# Altium schematic symbol library Resistors.SchLib: 54 symbols (part 2 of 2)
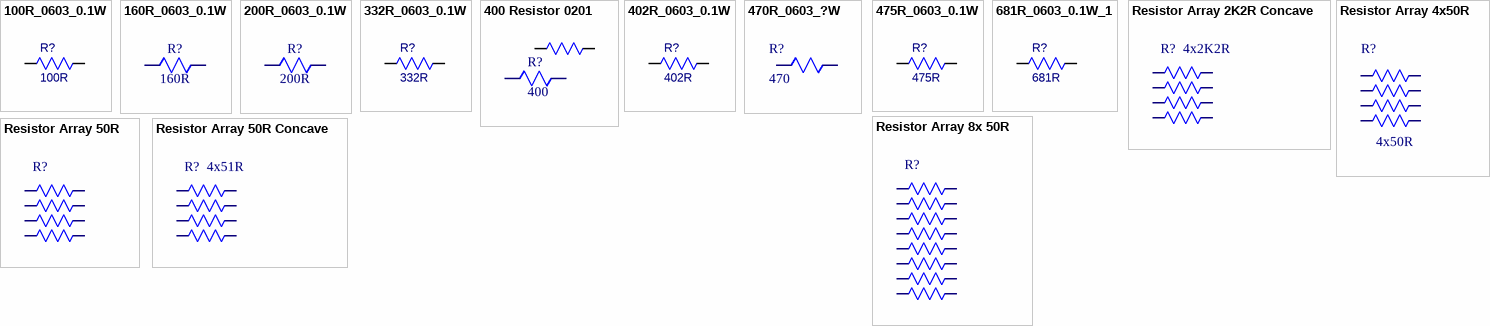
[diagram p2: symbols 100R_0603_0.1W to Resistor Array 50R Concave]

## 332R_0603_0.1W
designator R?, comment 332R
Res,SMD,1/10W,332R,0603,1%; Manufacturer: Yageo; Manufacturer Part Number: RC0603FR-0747R5L; Resistance (Ohms): 332Ohm; Power (Watts): 0.1W, 1/10W; Supplier 1: Digi-Key; RoHS: RoHS Compliant; Category: Resistors; Pricing 1: 1=0.15, 50=0.019, 100=0.0144, 250=0.01076, 500=0.00794, 1000=0.00529, 2500=0.00446 (CAD); Packaging: Cut Tape (CT); Tolerance: 1%; Composition: Thick Film; Features: Automotive AEC-Q200; Temperature Coefficient: -; Operating Temperature: -55°C ~ 155°C; Package / Case: 0603 (1608 Metric); Supplier Device Package: 0603; Size / Dimension: 0.063" L x 0.031" W (1.60mm x 0.80mm); Height: 0.022" (0.55mm); Number of Terminations: 2; Supplier 2: Arrow; Pricing 2: 25000000=0.0021, 50000000=0.0017, 125000000=0.0015, 250000000=0.0014, 625000000=0.0013, 1=0.0023, 25=0.0022 (USD); Package Quantity: 1000; Supplier Part Number 1: 311-332HRCT-ND
footprint R1608[0603]
pins: 1, 2

## 400 Resistor 0201
designator R?, comment 400
Manufacturer: Panasonic Electronic Components; Manufacturer Part Number: ERJ-1GEF4020C; Resistance (Ohms): 402; Tolerance: ±1%; Power (Watts): 0.05W, 1/20W; Temperature Coefficient: ±200ppm/°C; Supplier 1: Digi-Key; Supplier Part Number 1: P402ABCT-ND; RoHS: RoHS Compliant; Category: Resistors; Stock: 3806; Pricing: 1=0.15, 50=0.0424, 100=0.0313, 250=0.02384, 500=0.01908, 1000=0.01403, 5000=0.01006 (CAD); Packaging: Cut Tape (CT); Part Status: Active; Composition: Thick Film; Features: -; Operating Temperature: -55°C ~ 125°C; Package / Case: 0201 (0603 Metric); Supplier Device Package: 0201; Size / Dimension: 0.024" L x 0.012" W (0.60mm x 0.30mm); Height: 0.010" (0.26mm); Number of Terminations: 2; Failure Rate: -; ComponentLink1URL: http://media.digikey.com/pdf/Data%20Sheets/Panasonic%20Resistors%20Thermistors%20PDFs/ERJ_G,R,E_Rev08.pdf; ComponentLink1Description: http://media.digikey.com/pdf/Data%20Sheets/Panasonic%20Resistors%20Thermistors%20PDFs/ERJ_G,R,E_Rev08.pdf
footprint 0201 RESISTOR
pins: 1, 1, 2, 2

## 402R_0603_0.1W
designator R?, comment 402R
Res,SMD,1/10W,402R,0603,1%; Manufacturer: Panasonic Electronic Components; Manufacturer Part Number: ERJ-3EKF4020V; Power (Watts): 0.1W, 1/10W; Temperature Coefficient: ±100ppm/°C; ID: 1633688; Resistance (Ohms): 402; Supplier 1: Digi-Key; Supplier Part Number 1: P402HCT-ND; RoHS: RoHS Compliant; Category: Resistors; Stock: 121089; Pricing: 1=0.15, 50=0.0172, 100=0.0126, 250=0.00968, 500=0.00772, 1000=0.00569 (CAD); Packaging: Cut Tape (CT); Tolerance: ±1%; Composition: Thick Film; Features: Automotive AEC-Q200; Operating Temperature: -55°C ~ 155°C; Package / Case: 0603 (1608 Metric); Supplier Device Package: 0603; Size / Dimension: 0.063" L x 0.031" W (1.60mm x 0.80mm); Height: 0.022" (0.55mm); Number of Terminations: 2; ComponentLink1URL: http://industrial.panasonic.com/www-cgi/jvcr13pz.cgi?E+PZ+3+AOA0002+ERJ3EKF4020V+7+WW; ComponentLink1Description: http://industrial.panasonic.com/www-cgi/jvcr13pz.cgi?E+PZ+3+AOA0002+ERJ3EKF4020V+7+WW; Supplier 2: Arrow; Supplier Part Number 2: eZfyx1EtlYvVlf_vmAjt5IeB0vBKj3gJmzrKA6NBYFw; Package Quantity: 5000; ComponentLink2URL: https://www.arrow.com/en/products/erj-3ekf4020v/panasonic/; ComponentLink2Description: https://www.arrow.com/en/products/erj-3ekf4020v/panasonic/
footprint 0603_Resistor (Generic 0603 Surface Mount Resistor)
pins: 1, 2

## 470R_0603_?W
designator R?, comment 470
Res,SMD,1/10W,470R,0603
footprint R1608[0603]
pins: 1, 2

## 475R_0603_0.1W
designator R?, comment 475R
Res,SMD,1/10W,475R,0603,1%; Manufacturer: Yageo; Manufacturer Part Number: RC0603FR-07475RL; Resistance (Ohms): 475Ohm; Tolerance: Jumper; Power (Watts): 0.1W, 1/10W; ID: 1660684; Supplier 1: Digi-Key; RoHS: RoHS Compliant; Category: Resistors; Pricing 1: 1=0.15, 50=0.019, 100=0.0144, 250=0.01076, 500=0.00794, 1000=0.00529, 2500=0.00446 (CAD); Packaging: Cut Tape (CT); Composition: Thick Film; Features: Automotive AEC-Q200; Temperature Coefficient: -; Operating Temperature: -55°C ~ 155°C; Package / Case: 0603 (1608 Metric); Supplier Device Package: 0603; Size / Dimension: 0.063" L x 0.031" W (1.60mm x 0.80mm); Height: 0.022" (0.55mm); Number of Terminations: 2; Supplier 2: Arrow; Pricing 2: 25000000=0.0021, 50000000=0.0017, 125000000=0.0015, 250000000=0.0014, 625000000=0.0013, 1=0.0023, 25=0.0022 (USD); Package Quantity: 5000; Supplier Part Number 1: 311-475HRCT-ND
footprint R1608[0603]
pins: 1, 2

## 681R_0603_0.1W_1
designator R?, comment 681R
Res,SMD,1/10W,681R,0603,1%; Manufacturer: Panasonic Electronic Components; Manufacturer Part Number: ERJ-3GEY0R00V; Resistance (Ohms): 0.0; Tolerance: Jumper; Power (Watts): 0.1W, 1/10W; ID: 1660684; Supplier 1: Digi-Key; RoHS: RoHS Compliant; Category: Resistors; Pricing 1: 1=0.15, 50=0.019, 100=0.0144, 250=0.01076, 500=0.00794, 1000=0.00529, 2500=0.00446 (CAD); Packaging: Cut Tape (CT); Composition: Thick Film; Features: Automotive AEC-Q200; Temperature Coefficient: -; Operating Temperature: -55°C ~ 155°C; Package / Case: 0603 (1608 Metric); Supplier Device Package: 0603; Size / Dimension: 0.063" L x 0.031" W (1.60mm x 0.80mm); Height: 0.022" (0.55mm); Number of Terminations: 2; ComponentLink1URL: http://industrial.panasonic.com/www-cgi/jvcr13pz.cgi?E+PZ+3+AOA0001+ERJ3GEY0R00V+7+WW; ComponentLink1Description: http://industrial.panasonic.com/www-cgi/jvcr13pz.cgi?E+PZ+3+AOA0001+ERJ3GEY0R00V+7+WW; Supplier 2: Arrow; Pricing 2: 25000000=0.0021, 50000000=0.0017, 125000000=0.0015, 250000000=0.0014, 625000000=0.0013, 1=0.0023, 25=0.0022 (USD); Package Quantity: 5000; ComponentLink2URL: https://www.arrow.com/en/products/erj3gey0r00v/panasonic/; ComponentLink2Description: https://www.arrow.com/en/products/erj3gey0r00v/panasonic/; Supplier Part Number 1: 311-681HRCT-ND
footprint R1608[0603]
pins: 1, 2

## Resistor Array 2K2R Concave
designator R?, comment 4x2K2R
RES NETWORK 4Elements 2.2K Ohm ±5% 31mW 0804 Concave; Manufacturer: Panasonic; Manufacturer Part Number: EXB-N8V222JX; Number of Resistors: 4; Circuit Designator: ISOL; Rad Hard: No; Temperature Coefficient: ±200 ppm/°C; Supplier 1: Digi-Key; Stock 1: 15759; Pricing 1: 1=0.1, 10=0.067, 25=0.0464, 50=0.0362, 100=0.0259, 250=0.0202, 500=0.016, 1000=0.0114, 5000=0.0088 (USD); Package Type: SMD; Packaging: Tape & Reel; Number of Terminals: 8; Type: Array; Technology: Thick Film; Operating Temperature: -55 to 125 °C; Resistance Value: 2.2 KOhm; ComponentLink1URL: https://datasheet.ciiva.com/30161/aoc0000ce1-30161687.pdf; ComponentLink1Description: https://datasheet.ciiva.com/30161/aoc0000ce1-30161687.pdf; Supplier Part Number 1: Y10222CT-ND
footprint EXBN_8v
pins: 1, 2, 3, 4, 5, 6, 7, 8

## Resistor Array 4x50R
designator R?, comment 4x50R
Resistor Array 50 ohm; Manufacturer: Yageo; Manufacturer Part Number: YC164-JR-0751RL; Product Training Modules: Chip Resistor; Catalog Drawings: YC164 Series YC164 Series Side YC164 Series Circuit; EDA / CAD Models: Download from Accelerated Designs; Circuit Type: Isolated; Resistance (Ohms): 51; Tolerance: ±5%; Number of Resistors: 4; Power Per Element: 62.5mW; Temperature Coefficient: ±200ppm/°C; Online Catalog: YC164; Other Names: YC164J-51DKR; Supplier 1: Digikey; Stock 1: 17950; Pricing 1: 1=0.1, 10=0.036, 25=0.026, 50=0.0198, 100=0.0146, 250=0.0112, 500=0.0089, 1000=0.0066 (USD); Standard Package: 1; Category: Resistors; Family: Resistor Networks, Arrays; Series: YC164; Packaging: Digi-Reel®; Number of Pins: 8; Operating Temperature: -55°C ~ 155°C; Applications: DDRAM, SDRAM; Mounting Type: Surface Mount; Package / Case: 1206 (3216 Metric), Convex, Long Side Terminals; Supplier Device Package: 0603; Size / Dimension: 0.126" L x 0.063" W (3.20mm x 1.60mm); Height: 0.028" (0.70mm); ComponentLink1URL: https://datasheet.ciiva.com/2688/pyu-yc-tc164-51-rohs-l-3-2688433.pdf; ComponentLink1Description: https://datasheet.ciiva.com/2688/pyu-yc-tc164-51-rohs-l-3-2688433.pdf; ComponentLink2URL: https://datasheet.ciiva.com/2688/pyu-yc-tc164-51-rohs-l-3-2688434.pdf; ComponentLink2Description: https://datasheet.ciiva.com/2688/pyu-yc-tc164-51-rohs-l-3-2688434.pdf; ComponentLink3URL: https://datasheet.ciiva.com/2688/pyu-yc-tc164-51-rohs-l-3-2688435.pdf; ComponentLink3Description: https://datasheet.ciiva.com/2688/pyu-yc-tc164-51-rohs-l-3-2688435.pdf; ComponentLink4URL: https://datasheet.ciiva.com/8311/pyu-yc-tc164-51-rohs-l-3-8311702.pdf; ComponentLink4Description: https://datasheet.ciiva.com/8311/pyu-yc-tc164-51-rohs-l-3-8311702.pdf; ComponentLink5URL: https://datasheet.ciiva.com/28380/pyu-yc-tc164-51-rohs-l-3-28380249.pdf; ComponentLink5Description: https://datasheet.ciiva.com/28380/pyu-yc-tc164-51-rohs-l-3-28380249.pdf; ComponentLink6URL: https://datasheet.ciiva.com/16944/pyu-yc-tc164-51-rohs-l-3-16944559.pdf; ComponentLink6Description: https://datasheet.ciiva.com/16944/pyu-yc-tc164-51-rohs-l-3-16944559.pdf; Supplier Part Number 1: YC164J-51CT-ND
footprint YC164 (Yageo Resistor Array 4x)
pins: 1, 2, 3, 4, 5, 6, 7, 8

## Resistor Array 8x 50R
designator R?, comment 8x56R  (value not drawn)
RES Array 8 Elements 51 Ohm; Manufacturer: Panasonic ECG; Manufacturer Part Number: EXB-D10C560J; Packaging  X: Cut Tape; Number of Resistors  X: 8; Number of Terminals  X: 10; Type  X: Network; Circuit Designator  X: BUS; Technology  X: Thick Film; Resistance Value  X: 56 Ohm; Temperature Coefficient  X: ±200 ppm/°C; Supplier 1: Digi-Key; Stock 1: 7342; Pricing 1: 1=0.49, 10=0.376, 25=0.286, 50=0.2124, 100=0.1579, 250=0.1334, 500=0.1143, 1000=0.0871 (USD); Operating Temperature  X: -55 to 125 °C; ComponentLink1URL: https://datasheet.ciiva.com/15890/aoc0000ce3-15890832.pdf; ComponentLink1Description: https://datasheet.ciiva.com/15890/aoc0000ce3-15890832.pdf; ComponentLink2URL: https://datasheet.ciiva.com/30157/aoc0000ce3-30157209.pdf; ComponentLink2Description: https://datasheet.ciiva.com/30157/aoc0000ce3-30157209.pdf; ComponentLink3URL: https://datasheet.ciiva.com/3265/aoc0000ce3-3265182.pdf; ComponentLink3Description: https://datasheet.ciiva.com/3265/aoc0000ce3-3265182.pdf; ComponentLink4URL: https://datasheet.ciiva.com/3265/aoc0000ce3-3265183.pdf; ComponentLink4Description: https://datasheet.ciiva.com/3265/aoc0000ce3-3265183.pdf; Supplier Part Number 1: U9560DKR-ND
footprint EXBN_8POS
pins: 1, 2, 3, 4, 5, 6, 7, 8, 9, 10, 11, 12, 13, 14, 15, 16

## Resistor Array 50R
designator R?  (value not drawn)
50ohm Resistor array x4; Manufacturer: Yageo; Manufacturer Part Number: YC164-JR-0751RL; Product Training Modules: Chip Resistor; Catalog Drawings: YC164 Series YC164 Series Side YC164 Series Circuit; EDA / CAD Models: Download from Accelerated Designs; Circuit Type: Isolated; Resistance (Ohms): 51; Tolerance: ±5%; Number of Resistors: 4; Power Per Element: 62.5mW; Temperature Coefficient: ±200ppm/°C; Online Catalog: YC164; Other Names: YC164J-51DKR; Supplier 1: Digikey; Stock 1: 17950; Pricing 1: 1=0.1, 10=0.036, 25=0.026, 50=0.0198, 100=0.0146, 250=0.0112, 500=0.0089, 1000=0.0066 (USD); Standard Package: 1; Category: Resistors; Family: Resistor Networks, Arrays; Series: YC164; Packaging: Digi-Reel®; Number of Pins: 8; Operating Temperature: -55°C ~ 155°C; Applications: DDRAM, SDRAM; Mounting Type: Surface Mount; Package / Case: 1206 (3216 Metric), Convex, Long Side Terminals; Supplier Device Package: 0603; Size / Dimension: 0.126" L x 0.063" W (3.20mm x 1.60mm); Height: 0.028" (0.70mm); ComponentLink1URL: https://datasheet.ciiva.com/2688/pyu-yc-tc164-51-rohs-l-3-2688433.pdf; ComponentLink1Description: https://datasheet.ciiva.com/2688/pyu-yc-tc164-51-rohs-l-3-2688433.pdf; ComponentLink2URL: https://datasheet.ciiva.com/2688/pyu-yc-tc164-51-rohs-l-3-2688434.pdf; ComponentLink2Description: https://datasheet.ciiva.com/2688/pyu-yc-tc164-51-rohs-l-3-2688434.pdf; ComponentLink3URL: https://datasheet.ciiva.com/2688/pyu-yc-tc164-51-rohs-l-3-2688435.pdf; ComponentLink3Description: https://datasheet.ciiva.com/2688/pyu-yc-tc164-51-rohs-l-3-2688435.pdf; ComponentLink4URL: https://datasheet.ciiva.com/8311/pyu-yc-tc164-51-rohs-l-3-8311702.pdf; ComponentLink4Description: https://datasheet.ciiva.com/8311/pyu-yc-tc164-51-rohs-l-3-8311702.pdf; ComponentLink5URL: https://datasheet.ciiva.com/28380/pyu-yc-tc164-51-rohs-l-3-28380249.pdf; ComponentLink5Description: https://datasheet.ciiva.com/28380/pyu-yc-tc164-51-rohs-l-3-28380249.pdf; ComponentLink6URL: https://datasheet.ciiva.com/16944/pyu-yc-tc164-51-rohs-l-3-16944559.pdf; ComponentLink6Description: https://datasheet.ciiva.com/16944/pyu-yc-tc164-51-rohs-l-3-16944559.pdf; Supplier Part Number 1: YC164J-51CT-ND
footprint YC164 (Yageo Resistor Array 4x)
pins: 1, 2, 3, 4, 5, 6, 7, 8

## Resistor Array 50R Concave
designator R?, comment 4x51R
RES NETWORK 4Elements 51 Ohm ±5% 31mW 0804 Concave; Manufacturer: Panasonic ECG; Manufacturer Part Number: EXB-N8V510JX; Resistance: 51ohm; Voltage Rating: 50V; Temperature Coefficient: ± 200ppm/°C; No. of Elements: 4; Resistor Case Style: 0402 [1005 Metric]; SVHC: Diboron trioxide (19-Dec-2012); Resistor Mounting: SMD; Resistor Terminals: (Not Available); SVHC (Secondary): Lead monoxide (lead oxide) (19-Dec-2012); No. of Pins: 8; Network Circuit Type: Isolated; TZOA PN: 209-00012; Supplier 1: Digi-Key; Stock 1: 28942; Pricing 1: 1=0.15, 50=0.0586, 100=0.0446, 250=0.0332, 500=0.0245, 1000=0.0163, 5000=0.0115 (USD); Resistance Tolerance: ± 5%; Power Rating per Element: 31mW; Packaging: Cut Tape; ComponentLink1URL: https://datasheet.ciiva.com/28637/1790599-28637093.pdf; ComponentLink1Description: https://datasheet.ciiva.com/28637/1790599-28637093.pdf; ComponentLink2URL: https://datasheet.ciiva.com/46388/1480003-46388069.pdf; ComponentLink2Description: https://datasheet.ciiva.com/46388/1480003-46388069.pdf; ComponentLink3URL: https://datasheet.ciiva.com/15157/getdatasheetpartid-183543-15157943.pdf; ComponentLink3Description: https://datasheet.ciiva.com/15157/getdatasheetpartid-183543-15157943.pdf; ComponentLink4URL: https://datasheet.ciiva.com/30072/aoc0000ce1-30072941.pdf; ComponentLink4Description: https://datasheet.ciiva.com/30072/aoc0000ce1-30072941.pdf; ComponentLink5URL: https://datasheet.ciiva.com/46376/1480003-46376333.pdf; ComponentLink5Description: https://datasheet.ciiva.com/46376/1480003-46376333.pdf; ComponentLink6URL: https://datasheet.ciiva.com/5735/1480003-5735263.pdf; ComponentLink6Description: https://datasheet.ciiva.com/5735/1480003-5735263.pdf; Supplier Part Number 1: Y10510CT-ND
footprint EXBN_8v
pins: 1, 2, 3, 4, 5, 6, 7, 8